# Altium footprint library CONECTOR_6PIN.PcbLib: 1 footprints
Each footprint in its own frame and in the unit in brackets; x right, y up, seen from the top. Pads: shape width x height; smd on the part's side, far side on the other; paste and mask are expansions set on the pad; w line width, h text height; cw(c..) or ccw(c..) is an arc to the next point about the centre after c.
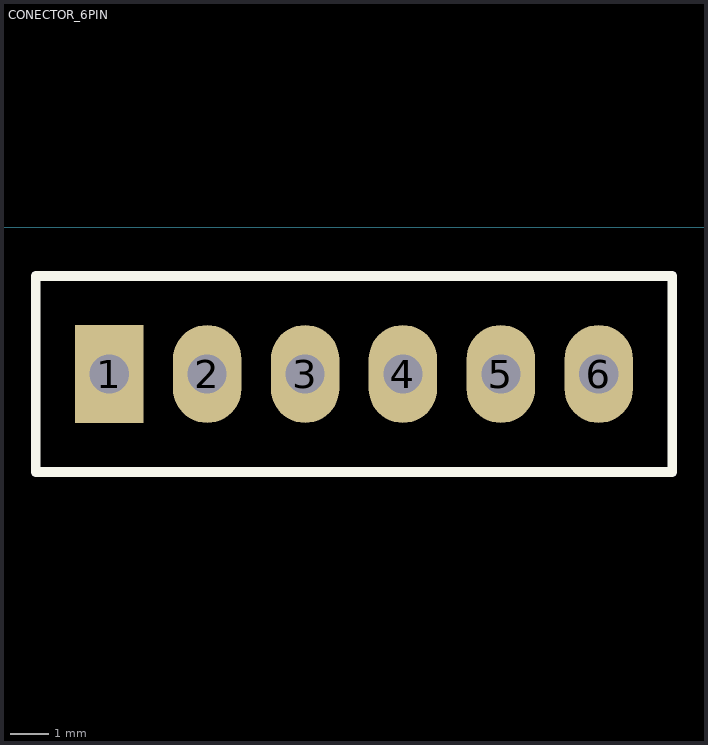
[diagram p0: the footprint, top view; thin cyan lines are the x and y axes]

## CONECTOR_6PIN [mil]
pads (6):
  rect 70x100 hole 40: 1(250,-150)
  oval 70x100 hole 40: 2(350,-150) 3(450,-150) 4(550,-150) 5(650,-150) 6(750,-150)
Top Overlay:
  lines w10: 175,-250 175,-50 825,-50 825,-250 175,-250